# Altium schematic symbol library Diode_TVS_PESD5Z3.3,115.SchLib: 1 symbol
Pins are listed as number, name and electrical type; pins without a type are passive.

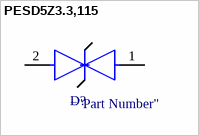
[diagram p0: symbol PESD5Z3.3,115]

## PESD5Z3.3,115
designator D?  (value not drawn)
pins: 1 C, 2 A